# Altium schematic symbol library Interface.SchLib: 1 symbol
Pins are listed as number, name and electrical type; pins without a type are passive.

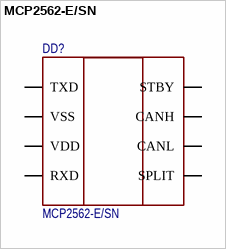
[diagram p0: symbol MCP2562-E/SN]

## MCP2562-E/SN
designator DD?
MCP2562-E/SN, Высокоскоростной CAN трансивер
pins: 1 TXD, 2 VSS, 3 VDD, 4 RXD, 5 STBY, 6 CANH, 7 CANL, 8 SPLIT "VIO"